# Altium footprint library CAPMP3528X198.PcbLib: 1 footprints
Each footprint in its own frame and in the unit in brackets; x right, y up, seen from the top. Pads: shape width x height; smd on the part's side, far side on the other; paste and mask are expansions set on the pad; w line width, h text height; cw(c..) or ccw(c..) is an arc to the next point about the centre after c.
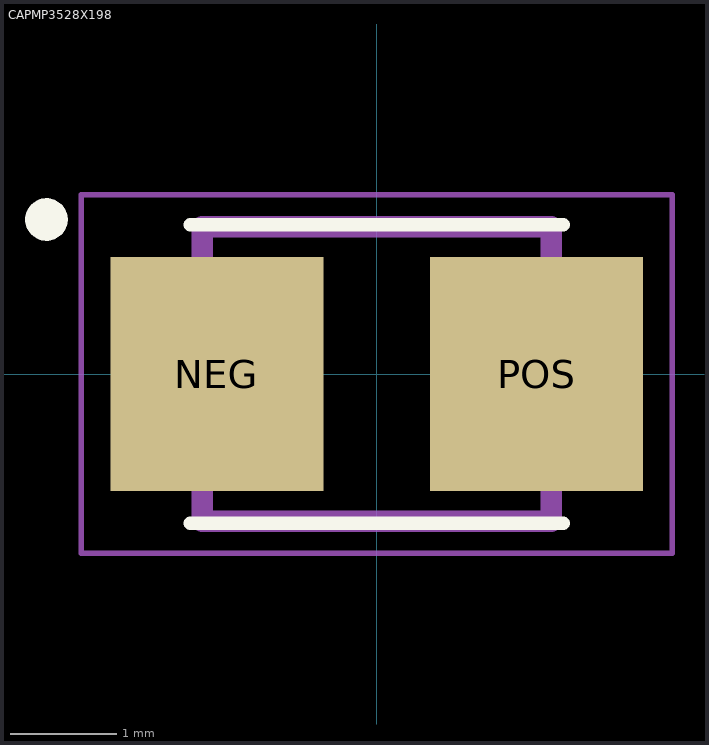
[diagram p0: the footprint, top view; thin cyan lines are the x and y axes]

## CAPMP3528X198 [mm]
pads (2):
  rect 2x2.2 smd: NEG(-1.5,0) POS(1.5,0)
Top Overlay:
  circle w0.2: c-3.1,1.45 r0.1
  lines w0.127: -1.75,-1.4 1.75,-1.4 ; -1.75,1.4 1.75,1.4
Mechanical 1:
  lines w0.051: -2.773,-1.683 -2.773,1.683 2.773,1.683 2.773,-1.683 -2.773,-1.683
  lines w0.152: -1.778,-1.016 -1.778,1.016 ; 1.778,-1.016 1.778,1.016
  lines w0.203: -1.637,-1.383 1.637,-1.383 1.637,1.383 -1.637,1.383 -1.637,-1.383